# Altium footprint library PcbLib.PcbLib: 19 footprints (part 1 of 2)
Each footprint in its own frame and in the unit in brackets; x right, y up, seen from the top. Pads: shape width x height; smd on the part's side, far side on the other; paste and mask are expansions set on the pad; w line width, h text height; cw(c..) or ccw(c..) is an arc to the next point about the centre after c.
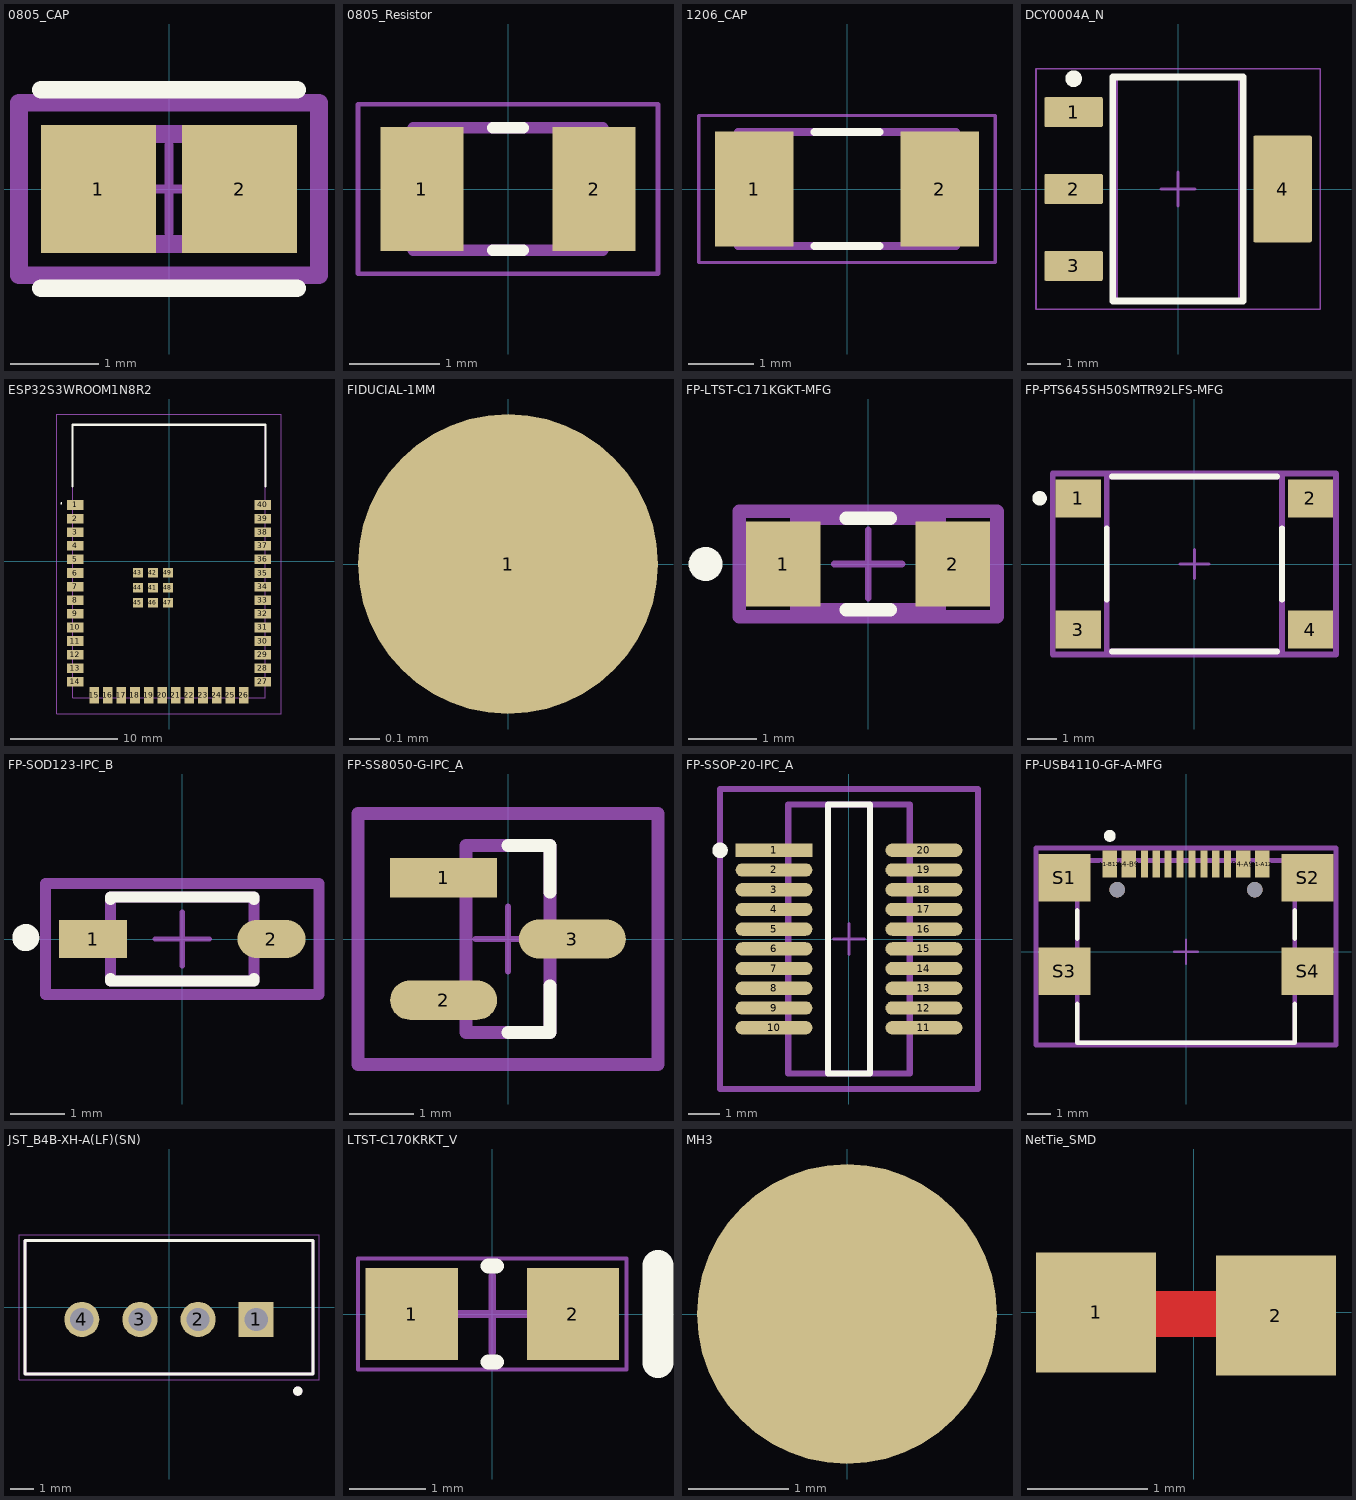
[diagram p0: the footprints below, top view; thin cyan lines are the x and y axes]

## 0805_CAP [mm]
pads (2):
  rect 1.305x1.456 smd paste+0 mask+0: 1(-0.801,0) 2(0.801,0)
Top Overlay:
  lines w0.2: -1.453,-1.128 1.453,-1.128 ; -1.453,1.128 1.453,1.128
Top Assembly:
  lines w0.2: -1.703,-0.978 1.703,-0.978 1.703,0.978 -1.703,0.978 -1.703,-0.978
  text ".Designator" at 0,0.188 h1
Top 3D Body:
  lines w0.2: -1,-0.625 1,-0.625 1,0.625 -1,0.625 -1,-0.625
Top Courtyard:
  lines w0.2: -1.703,-0.978 1.703,-0.978 1.703,0.978 -1.703,0.978 -1.703,-0.978
Top Component Center:
  lines w0.1: -0.5,0 0.5,0 ; 0,-0.5 0,0.5
3D body "Cap_KEMET_C0805C472J3HAC_eec.STEP": height 0.25, standoff 0, extent -1.703,-0.978 1.703,0.978

## 0805_Resistor [mm]
pads (2):
  rect 0.92x1.38 smd: 1(-0.955,0) 2(0.955,0)
Top Overlay:
  lines w0.127: -0.17,-0.68 0.17,-0.68 ; -0.17,0.68 0.17,0.68
Top 3D Body:
  lines w0.127: -1.05,-0.68 -1.05,0.68 1.05,0.68 1.05,-0.68 -1.05,-0.68
Top Courtyard:
  lines w0.05: -1.665,-0.94 -1.665,0.94 1.665,0.94 1.665,-0.94 -1.665,-0.94
3D body "step_temp.STEP": height 0.6, standoff 0, extent -1,-0.625 1,0.625

## 1206_CAP [mm]
pads (2):
  rect 1.21x1.77 smd: 1(-1.428,0) 2(1.428,0)
Top Overlay:
  lines w0.127: -0.5,-0.88 0.5,-0.88 ; -0.5,0.88 0.5,0.88
Top 3D Body:
  lines w0.127: -1.68,-0.88 1.68,-0.88 1.68,0.88 -1.68,0.88 -1.68,-0.88
Top Courtyard:
  lines w0.05: -2.285,-1.135 2.285,-1.135 2.285,1.135 -2.285,1.135 -2.285,-1.135
3D body "C1206-H1.8.STEP": height 1.8, standoff 0, extent -1.6,-0.72 1.6,0.88

## DCY0004A_N [mm] "SOT223, 4-Leads, Body 6.7x3.7mm, Pitch 2.3mm, IPC Medium Density"
height 1.8
pads (4):
  rrect11% 1.75x0.9 smd: 1(-3.125,2.3) 2(-3.125,0) 3(-3.125,-2.3)
  rrect6% 1.75x3.2 smd: 4(3.125,0)
Top Overlay:
  circle w0.25: c-3.125,3.3 r0.125
  lines w0.2: -1.95,-3.35 1.95,-3.35 1.95,3.35 -1.95,3.35 -1.95,-3.35
Mechanical 1:
  text ".Designator" at -1.651,-0.254 h0.8
Top 3D Body:
  lines w0.1: -1.85,-3.35 1.85,-3.35 1.85,3.35 -1.85,3.35 -1.85,-3.35
Top Courtyard:
  lines w0.05: -4.25,-3.6 4.25,-3.6 4.25,3.6 -4.25,3.6 -4.25,-3.6
  lines w0.1: -0.5,0 0.5,0 ; 0,-0.5 0,0.5
3D body "SOT-223.stp": height 1.62, standoff -0.03, extent -3.5,-3.25 3.5,3.25

## ESP32S3WROOM1N8R2 [mm]
pads (49):
  rect 1.5x0.9 smd: 1(-8.75,5.26) 2(-8.75,3.99) 3(-8.75,2.72) 4(-8.75,1.45) 5(-8.75,0.18) 6(-8.75,-1.09) 7(-8.75,-2.36) 8(-8.75,-3.63) 9(-8.75,-4.9) 10(-8.75,-6.17) 11(-8.75,-7.44) 12(-8.75,-8.71) 13(-8.75,-9.98) 14(-8.75,-11.25) 27(8.75,-11.25) 28(8.75,-9.98) 29(8.75,-8.71) 30(8.75,-7.44) 31(8.75,-6.17) 32(8.75,-4.9) 33(8.75,-3.63) 34(8.75,-2.36) 35(8.75,-1.09) 36(8.75,0.18) 37(8.75,1.45) 38(8.75,2.72) 39(8.75,3.99) 40(8.75,5.26)
  rect 0.9x1.5 smd: 15(-6.985,-12.5) 16(-5.715,-12.5) 17(-4.445,-12.5) 18(-3.175,-12.5) 19(-1.905,-12.5) 20(-0.635,-12.5) 21(0.635,-12.5) 22(1.905,-12.5) 23(3.175,-12.5) 24(4.445,-12.5) 25(5.715,-12.5) 26(6.985,-12.5)
  rect 0.9x0.9 smd: 41(-1.5,-2.46) 42(-1.5,-1.06) 43(-2.9,-1.06) 44(-2.9,-2.46) 45(-2.9,-3.86) 46(-1.5,-3.86) 47(-0.1,-3.86) 48(-0.1,-2.46) 49(-0.1,-1.06)
Top Overlay:
  lines w0.1: -10.1,5.4 ccw(c-10.05,5.4) -10,5.4 ccw(c-10.05,5.4) -10.1,5.4
  lines w0.2: -9,7 -9,12.75 9,12.75 9,7
Top 3D Body:
  lines w0.1: -10.5,-14.25 -10.5,13.75 10.5,13.75 10.5,-14.25 -10.5,-14.25 ; -9,-12.75 -9,12.75 9,12.75 9,-12.75 -9,-12.75
3D body "step_temp.STEP": height 3.25, standoff 0, extent -9,-12.75 9,12.75

## FIDUCIAL-1MM [mm] "1MM FIDUCAL MARKER"
pads (1):
  round 1 smd paste+0 mask+0.5: 1(0,0)

## FP-LTST-C171KGKT-MFG [mm]
pads (2):
  rect 1.1x1.25 smd paste+0 mask+0: 1(-1.25,0) 2(1.25,0)
Top Overlay:
  circle w0.25: c-2.4,0 r0.125
  lines w0.2: -0.325,-0.675 0.325,-0.675 ; -0.325,0.675 0.325,0.675
Top Assembly:
  lines w0.2: -1.9,-0.775 -1.9,0.775 1.9,0.775 1.9,-0.775 -1.9,-0.775
  text ".Designator" at 0,-0.001 h1
Top 3D Body:
  lines w0.2: -1.05,-0.675 -1.05,0.675 1.05,0.675 1.05,-0.675 -1.05,-0.675
Top Courtyard:
  lines w0.2: -1.9,-0.775 -1.9,0.775 1.9,0.775 1.9,-0.775 -1.9,-0.775
Top Component Center:
  lines w0.1: -0.5,0 0.5,0 ; 0,-0.5 0,0.5
3D body "Diode_Lite-On_LTST-C171KGKT_eec.STEP": height 0.25, standoff 0, extent -1.9,-0.775 1.9,0.775

## FP-PTS645SH50SMTR92LFS-MFG [mm]
pads (4):
  rect 1.55x1.3 smd paste+0 mask+0: 1(-3.975,2.25) 2(3.975,2.25) 3(-3.975,-2.25) 4(3.975,-2.25)
Top Overlay:
  circle w0.25: c-5.3,2.25 r0.125
  lines w0.2: -3,-1.225 -3,1.225 ; -2.825,-3 2.825,-3 ; -2.825,3 2.825,3 ; 3,-1.225 3,1.225
Top Assembly:
  lines w0.2: -4.85,-3.1 4.85,-3.1 4.85,3.1 -4.85,3.1 -4.85,-3.1
  text ".Designator" at 0,0.188 h1
Top 3D Body:
  lines w0.2: -3,-3 3,-3 3,3 -3,3 -3,-3
Top Courtyard:
  lines w0.2: -4.85,-3.1 4.85,-3.1 4.85,3.1 -4.85,3.1 -4.85,-3.1
Top Component Center:
  lines w0.1: -0.5,0 0.5,0 ; 0,-0.5 0,0.5
3D body "User Library-PTS645SL43SMTR92-LFS.STEP": height 4.3, standoff 0, extent -4.5,-3 4.5,3

## FP-SOD123-IPC_B [mm]
pads (2):
  rect 1.257x0.702 smd paste+0 mask+0: 1(-1.65,0)
  rrect100% 1.257x0.702 smd paste+0 mask+0: 2(1.65,0)
Top Overlay:
  circle w0.25: c-2.895,0.026 r0.125
  lines w0.2: -1.325,-0.726 -1.325,-0.775 1.325,-0.775 1.325,-0.726 ; -1.325,0.726 -1.325,0.775 1.325,0.775 1.325,0.726
Top Assembly:
  lines w0.2: -2.529,-1.025 -2.529,1.025 2.529,1.025 2.529,-1.025 -2.529,-1.025
  text ".Designator" at 0,0.188 h1
Top 3D Body:
  lines w0.2: -1.325,-0.775 -1.325,0.775 1.325,0.775 1.325,-0.775 -1.325,-0.775
Top Courtyard:
  lines w0.2: -2.529,-1.025 -2.529,1.025 2.529,1.025 2.529,-1.025 -2.529,-1.025
Top Component Center:
  lines w0.1: -0.5,0 0.5,0 ; 0,-0.5 0,0.5
3D body "Diode_Diodes_Inc_MMSZ5245B-7-F_eec.STEP": height 0.25, standoff 0, extent -2.529,-1.025 2.529,1.025

## FP-SS8050-G-IPC_A [mm]
pads (3):
  rect 1.657x0.612 smd paste+0 mask+0: 1(-1.001,0.95)
  rrect100% 1.657x0.612 smd paste+0 mask+0: 2(-1.001,-0.95) 3(1.001,0)
Top Overlay:
  lines w0.2: 0,-1.45 0.65,-1.45 0.65,-0.725 ; 0,1.45 0.65,1.45 0.65,0.725
Top Assembly:
  lines w0.2: -2.329,-1.95 2.329,-1.95 2.329,1.95 -2.329,1.95 -2.329,-1.95
  text ".Designator" at 0,-0.001 h1
Top 3D Body:
  lines w0.2: -0.65,-1.45 0.65,-1.45 0.65,1.45 -0.65,1.45 -0.65,-1.45
Top Courtyard:
  lines w0.2: -2.329,-1.95 2.329,-1.95 2.329,1.95 -2.329,1.95 -2.329,-1.95
Top Component Center:
  lines w0.1: -0.5,0 0.5,0 ; 0,-0.5 0,0.5
3D body "Trans_Comchip_SS8050-G_eec.STEP": height 0.25, standoff 0, extent -2.329,-1.95 2.329,1.95

## FP-SSOP-20-IPC_A [mil]
pads (20):
  rect 97.53x16.81 smd paste+0 mask+0: 1(-95.01,112.5)
  rrect100% 97.53x16.81 smd paste+0 mask+0: 2(-95.01,87.5) 3(-95.01,62.5) 4(-95.01,37.5) 5(-95.01,12.5) 6(-95.01,-12.5) 7(-95.01,-37.5) 8(-95.01,-62.5) 9(-95.01,-87.5) 10(-95.01,-112.5) 11(95.01,-112.5) 12(95.01,-87.5) 13(95.01,-62.5) 14(95.01,-37.5) 15(95.01,-12.5) 16(95.01,12.5) 17(95.01,37.5) 18(95.01,62.5) 19(95.01,87.5) 20(95.01,112.5)
Top Overlay:
  circle w9.84: c-163.46,112.5 r4.92
  lines w7.87: -26.56,-170.5 26.56,-170.5 26.56,170.5 -26.56,170.5 -26.56,-170.5
Top Assembly:
  lines w7.87: -163.46,-190.19 163.46,-190.19 163.46,190.19 -163.46,190.19 -163.46,-190.19
  text ".Designator" at 0,7.39 h39.37
Top 3D Body:
  lines w7.87: -77,-170.5 77,-170.5 77,170.5 -77,170.5 -77,-170.5
Top Courtyard:
  lines w7.87: -163.46,-190.19 163.46,-190.19 163.46,190.19 -163.46,190.19 -163.46,-190.19
Top Component Center:
  lines w3.94: -19.68,0 19.68,0 ; 0,-19.68 0,19.68
3D body "IC_FTDI_FT231XS-R_eec.STEP": height 10, standoff 0, extent -163.46,-190.19 163.46,190.19

## FP-USB4110-GF-A-MFG [mm]
pads (18):
  rect 0.6x1.15 smd paste+0 mask+0: A1-B12(-3.2,3.68) A4-B9(-2.4,3.68) B1-A12(3.2,3.68) B4-A9(2.4,3.68)
  rect 0.3x1.15 smd paste+0 mask+0: A5(-1.25,3.68) A6(-0.25,3.68) A7(0.25,3.68) A8(1.25,3.68) B5(1.75,3.68) B6(0.75,3.68) B7(-0.75,3.68) B8(-1.75,3.68)
  rect 2.18x2 smd paste+0 mask+0: S1(-5.11,3.105) S2(5.11,3.105) S3(-5.11,-0.825) S4(5.11,-0.825)
  round 0.65 hole 0.65 unplated paste-2539.97 mask+0: ""(-2.89,2.605) ""(2.89,2.605)
Top Overlay:
  circle w0.25: c-3.201,4.865 r0.125
  lines w0.2: -4.57,-2.2 -4.57,-3.825 4.57,-3.825 4.57,-2.2 ; -4.57,0.55 -4.57,1.73 ; 4.57,0.55 4.57,1.73
Top Assembly:
  lines w0.2: -6.3,-3.925 6.3,-3.925 6.3,4.355 -6.3,4.355 -6.3,-3.925
  text ".Designator" at 0,0.403 h1
Top 3D Body:
  lines w0.2: -4.57,-3.825 4.57,-3.825 4.57,3.825 -4.57,3.825 -4.57,-3.825
Top Courtyard:
  lines w0.2: -6.3,-3.925 6.3,-3.925 6.3,4.355 -6.3,4.355 -6.3,-3.925
Top Component Center:
  lines w0.1: -0.5,0 0.5,0 ; 0,-0.5 0,0.5
3D body "Conn_GCT_USB4110-GF-A_eec.STEP": height 0.25, standoff 0, extent -6.3,-3.925 6.3,4.355

## JST_B4B-XH-A(LF)(SN) [mm]
height 7
pads (4):
  rect 1.508x1.508 / inner round 1.508 / far side rect 1.508x1.508 hole 1: 1(3.75,-0.525)
  round 1.508 hole 1: 2(1.25,-0.525) 3(-1.25,-0.525) 4(-3.75,-0.525)
Top Overlay:
  circle w0.2: c5.537,-3.607 r0.1
  lines w0.127: -6.2,-2.875 -6.2,2.875 6.2,2.875 6.2,-2.875 -6.2,-2.875
Top 3D Body:
  circle w0.2: c5.537,-3.607 r0.1
  lines w0.127: -6.2,-2.875 -6.2,2.875 6.2,2.875 6.2,-2.875 -6.2,-2.875
Top Courtyard:
  lines w0.05: -6.45,-3.125 -6.45,3.125 6.45,3.125 6.45,-3.125 -6.45,-3.125
3D body "step_temp.STEP": height 3.4, standoff -7, extent -6.2,-2.875 6.2,2.875

## LTST-C170KRKT_V [mm] "SMD, 2-Leads, Body 2x1.25mm"
height 1.2
pads (2):
  rect 1.2x1.2 smd: 1(-1.05,0) 2(1.05,0)
Top Overlay:
  lines w0.2: -0.051,-0.625 0.051,-0.625 ; -0.051,0.625 0.051,0.625
  lines w0.4: 2.159,-0.635 2.159,0.635
Top Courtyard:
  lines w0.05: -1.75,-0.725 -1.75,0.725 1.75,0.725 1.75,-0.725 -1.75,-0.725
  lines w0.1: -0.5,0 0.5,0 ; 0,-0.5 0,0.5
3D body "SMD_0805LED_RED.STEP": height 1.1, standoff 0, extent -1.01,-0.625 1.01,0.625

## MH3 [mm]
pads (1):
  round 3 all layers, no hole: ""(0,0)

## NetTie_SMD [mm]
pads (2):
  rect 1x1 smd mask-10: 1(-0.813,0) 2(0.686,-0.025)
Top Layer:
  rectangle: -0.61,-0.203 0.457,0.178